# Altium schematic symbol library reg_switching_led_driver.SchLib: 1 symbol
Pins are listed as number, name and electrical type; pins without a type are passive.

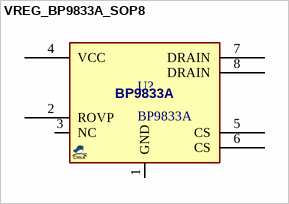
[diagram p0: symbol VREG_BP9833A_SOP8]

## VREG_BP9833A_SOP8
designator U?, comment BP9833A
REG, Switching, LED driver, Buck, offline; MANF: BPS; PARAM2: 85~265VacIN, 36~72VDD; PARAM: 350mA, 70KHz, -40~150°C; ASSEMBLY: ASSEMBLY; MANF_P#: BP9833A; VALUE: BP9833A
footprint SO_8 (SOP-8, 5x3.9mm body 1.27mm pitch, SOT96-1, M08A, S8, SOIC8, VO8, MS-012AA(JEDEC), R-8, 8S2, VOG8)
pins: 1 GND, 2 ROVP, 3 NC, 4 VCC, 5 CS, 6 CS, 7 DRAIN, 8 DRAIN